# Altium schematic symbol library Module.SchLib: 29 symbols
Pins are listed as number, name and electrical type; pins without a type are passive.

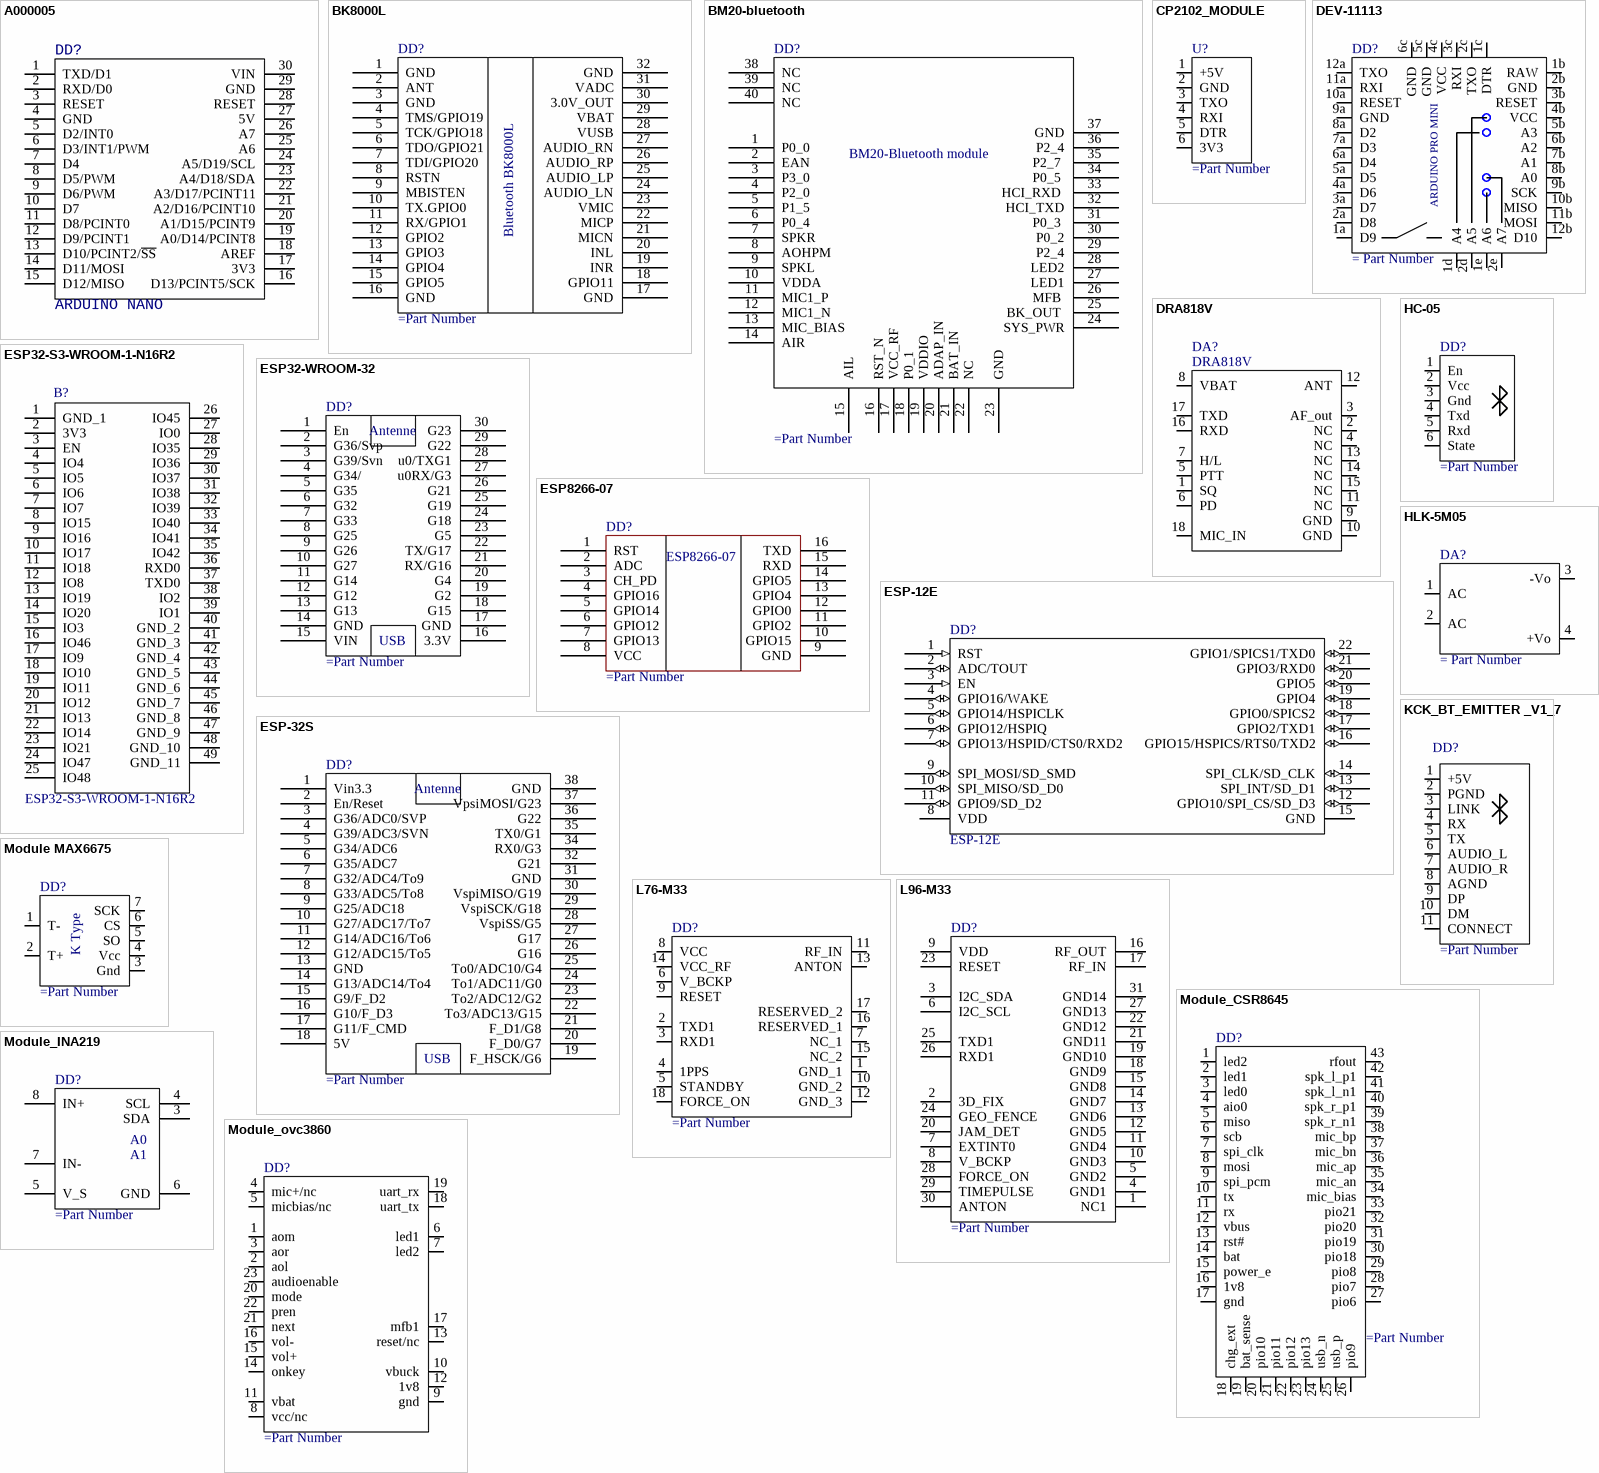
[diagram p0: symbols A000005 to Module_ovc3860]

## A000005
designator DD?, comment ARDUINO NANO
Development Boards & Kits - AVR ARDUINO NANO V3 A000005
footprint ARDUINO NANO
pins: 1 TXD/D1, 2 RXD/D0, 3 RESET, 4 GND, 5 D2/INT0, 6 D3/INT1/PWM, 7 D4, 8 D5/PWM, 9 D6/PWM, 10 D7, 11 D8/PCINT0, 12 D9/PCINT1, 13 D10/PCINT2/~{SS}, 14 D11/MOSI, 15 D12/MISO, 16 D13/PCINT5/SCK, 17 3V3, 18 AREF, 19 A0/D14/PCINT8, 20 A1/D15/PCINT9, 21 A2/D16/PCINT10, 22 A3/D17/PCINT11, 23 A4/D18/SDA, 24 A5/D19/SCL, 25 A6, 26 A7, 27 5V, 28 RESET, 29 GND, 30 VIN

## BK8000L
designator DD?
pins: 1 GND, 2 ANT, 3 GND, 4 TMS/GPIO19, 5 TCK/GPIO18, 6 TDO/GPIO21, 7 TDI/GPIO20, 8 RSTN, 9 MBISTEN, 10 TX.GPIO0, 11 RX/GPIO1, 12 GPIO2, 13 GPIO3, 14 GPIO4, 15 GPIO5, 16 GND, 17 GND, 18 GPIO11, 19 INR, 20 INL, 21 MICN, 22 MICP, 23 VMIC, 24 AUDIO_LN, 25 AUDIO_LP, 26 AUDIO_RP, 27 AUDIO_RN, 28 VUSB, 29 VBAT, 30 3.0V_OUT, 31 VADC, 32 GND
text: Bluetooth BK8000L

## BM20-bluetooth
designator DD?
pins: 1 P0_0 , 2 EAN, 3 P3_0, 4 P2_0, 5 P1_5, 6 P0_4, 7 SPKR, 8 AOHPM , 9 SPKL , 10 VDDA , 11 MIC1_P , 12 MIC1_N , 13 MIC_BIAS, 14 AIR, 15 AIL, 16 RST_N , 17 VCC_RF, 18 P0_1, 19 VDDIO, 20 ADAP_IN, 21 BAT_IN, 22 NC, 23 GND, 24 SYS_PWR, 25 BK_OUT , 26 MFB , 27 LED1, 28 LED2, 29 P2_4, 30 P0_2, 31 P0_3 , 32   HCI_TXD, 33 HCI_RXD , 34 P0_5 , 35 P2_7 , 36 P2_4, 37 GND, 38 NC, 39 NC, 40 NC
text: BM20-Bluetooth module

## CP2102_MODULE
designator U?
pins: 1 +5V, 2 GND, 3 TXO, 4 RXI, 5 DTR, 6 3V3

## DEV-11113
designator DD?
pins: 1a D9, 1b RAW, 1c DTR, 1d A4, 1e A6, 2a D8, 2b GND, 2c TXO, 2d A5, 2e A7, 3a D7, 3b RESET, 3c RXI, 4a D6, 4b VCC, 4c VCC, 5a D5, 5b A3, 5c GND, 6a D4, 6b A2, 6c GND, 7a D3, 7b A1, 8a D2, 8b A0, 9a GND, 9b SCK, 10a RESET, 10b MISO, 11a RXI, 11b MOSI, 12a TXO, 12b D10
text: ARDUINO PRO MINI

## DRA818V
designator DA?
footprint DRA818_breakout
pins: 1 SQ "Squelch output", 2 NC, 3 AF_out "AF output", 4 NC, 5 PTT "Low -> TX; High -> RX", 6 PD "Power Down", 7 H/L "L -> 0.5W; float -> 1W", 8 VBAT, 9 GND, 10 GND, 11 NC, 12 ANT, 13 NC, 14 NC, 15 NC, 16 RXD, 17 TXD, 18 MIC_IN

## ESP32-S3-WROOM-1-N16R2
designator B?
Bluetooth, WiFi 802.11b/g/n, Bluetooth v5.0 Transceiver Module 2.4GHz PCB Trace Surface Mount , 3V ~ 3.6V , 95mA ~ 97mA , -40C ~ 85C (TA); Manufacturer_Name: Espressif Systems; Geometry.Height: 3.25mm; Mouser Part Number: 356-ESP32S3WRM1N16R2; Mouser Price/Stock: https://www.mouser.co.uk/ProductDetail/Espressif-Systems/ESP32-S3-WROOM-1-N16R2?qs=Li%252BoUPsLEnvy1bxV65eH%2Fw%3D%3D; Manufacturer_Part_Number: ESP32-S3-WROOM-1-N16R2; Datasheet Link: https://www.espressif.com/sites/default/files/documentation/esp32-s3-wroom-1_wroom-1u_datasheet_en.pdf
footprint ESP32S3WROOM1N16R2
pins: 1 GND_1, 2 3V3, 3 EN, 4 IO4, 5 IO5, 6 IO6, 7 IO7, 8 IO15, 9 IO16, 10 IO17, 11 IO18, 12 IO8, 13 IO19, 14 IO20, 15 IO3, 16 IO46, 17 IO9, 18 IO10, 19 IO11, 20 IO12, 21 IO13, 22 IO14, 23 IO21, 24 IO47, 25 IO48, 26 IO45, 27 IO0, 28 IO35, 29 IO36, 30 IO37, 31 IO38, 32 IO39, 33 IO40, 34 IO41, 35 IO42, 36 RXD0, 37 TXD0, 38 IO2, 39 IO1, 40 GND_2, 41 GND_3, 42 GND_4, 43 GND_5, 44 GND_6, 45 GND_7, 46 GND_8, 47 GND_9, 48 GND_10, 49 GND_11

## ESP32-WROOM-32
designator DD?
pins: 1 En, 2 G36/Svp, 3 G39/Svn, 4 G34/, 5 G35, 6 G32, 7 G33, 8 G25, 9 G26, 10 G27, 11 G14, 12 G12, 13 G13, 14 GND, 15 VIN, 16 3.3V, 17 GND, 18 G15, 19 G2, 20 G4, 21 RX/G16, 22 TX/G17, 23 G5, 24 G18, 25 G19, 26 G21, 27 u0RX/G3, 28 u0/TXG1, 29 G22, 30 G23
text: Antenne; USB

## ESP8266-07
designator DD?
pins: 1 RST, 2 ADC, 3 CH_PD, 4 GPIO16, 5 GPIO14, 6 GPIO12, 7 GPIO13, 8 VCC, 9 GND, 10 GPIO15, 11 GPIO2, 12 GPIO0, 13 GPIO4, 14 GPIO5, 15 RXD, 16 TXD

## ESP-12E
designator DD?
WiFi module has a 32-bit MCU micro and clock speeds supporting 80 MHz or 160 MHz.; Part Number: 317060015; Manufacturer Part Number: 317060015-ND; HelpURL: https://www.digikey.com/en/products/detail/seeed-technology-co-ltd/317060015/5775200; Price$: 5.28; Digi-Key Part Number: 317060015-ND; Mouser Part Number: 317060015; HelpURL2: https://www.snapeda.com/parts/ESP8266-12E/ESP-12E/AI-Thinker/view-part/
footprint 317060015
pins: 1 RST (in), 2 ADC/TOUT (io), 3 EN (in), 4 GPIO16/WAKE (io), 5 GPIO14/HSPICLK (io), 6 GPIO12/HSPIQ (io), 7 GPIO13/HSPID/CTS0/RXD2 (io), 8 VDD, 9 SPI_MOSI/SD_SMD (io), 10 SPI_MISO/SD_D0 (io), 11 GPIO9/SD_D2 (io), 12 GPIO10/SPI_CS/SD_D3 (io), 13 SPI_INT/SD_D1 (io), 14 SPI_CLK/SD_CLK (io), 15 GND, 16 GPIO15/HSPICS/RTS0/TXD2 (io), 17 GPIO2/TXD1 (io), 18 GPIO0/SPICS2 (io), 19 GPIO4 (io), 20 GPIO5 (io), 21 GPIO3/RXD0 (io), 22 GPIO1/SPICS1/TXD0 (io)

## ESP-32S
designator DD?
pins: 1 Vin3.3, 2 En/Reset, 3 G36/ADC0/SVP, 4 G39/ADC3/SVN, 5 G34/ADC6, 6 G35/ADC7, 7 G32/ADC4/To9, 8 G33/ADC5/To8, 9 G25/ADC18, 10 G27/ADC17/To7, 11 G14/ADC16/To6, 12 G12/ADC15/To5, 13 GND, 14 G13/ADC14/To4, 15 G9/F_D2, 16 G10/F_D3, 17 G11/F_CMD, 18 5V, 19 F_HSCK/G6, 20 F_D0/G7, 21 F_D1/G8, 22 To3/ADC13/G15, 23 To2/ADC12/G2, 24 To1/ADC11/G0, 25 To0/ADC10/G4, 26 G16, 27 G17, 28 VspiSS/G5, 29 VspiSCK/G18, 30 VspiMISO/G19, 31 GND, 32 G21, 34 RX0/G3, 35 TX0/G1, 36 G22, 37 VpsiMOSI/G23, 38 GND
text: Antenne; USB

## HC-05
designator DD?
pins: 1 En, 2 Vcc, 3 Gnd, 4 Txd, 5 Rxd, 6 State

## HLK-5M05
designator DA?
footprint HLK-5M05 (5W ultra-compact AC/DC power module HLK-5M05)
pins: 1 AC, 2 AC, 3 -Vo, 4 +Vo

## KCK_BT_EMITTER _V1_7
designator DD?
pins: 1 +5V, 2 PGND, 3 LINK, 4 RX, 5 TX, 6 AUDIO_L, 7 AUDIO_R, 8 AGND, 9 DP, 10 DM, 11 CONNECT

## L76-M33
designator DD?
GPS; Manufacturer_Name: Quectel; Manufacturer_Part_Number: L76-M33; Datasheet Link: https://datasheet.datasheetarchive.com/originals/distributors/Datasheets_SAMA/41812d7b1c816a6d8978e3ae1e22c1bf.pdf; Mouser Part Number: 277-L76-M33; Mouser Price/Stock: https://www.mouser.co.uk/ProductDetail/Quectel/L76-M33?qs=GedFDFLaBXE%2FO6lmQFkONA%3D%3D; Arrow Part Number: L76-M33; Arrow Price/Stock: https://www.arrow.com/en/products/l76-m33/quectel-wireless-solutions-co-ltd?region=nac
footprint L76
pins: 1 GND_1, 2 TXD1, 3 RXD1, 4 1PPS, 5 STANDBY, 6 V_BCKP, 7 NC_1, 8 VCC, 9 RESET, 10 GND_2, 11 RF_IN, 12 GND_3, 13 ANTON, 14 VCC_RF, 15 NC_2, 16 RESERVED_1, 17 RESERVED_2, 18 FORCE_ON

## L96-M33
designator DD?
GPS; Manufacturer_Name: Quectel; Manufacturer_Part_Number: L96-M33; Datasheet Link: https://datasheet.datasheetarchive.com/originals/distributors/Datasheets_SAMA/c0ed967e056339dc6605afdc999e8ece.pdf; Mouser Part Number: 277-L96-M33; Mouser Price/Stock: https://www.mouser.co.uk/ProductDetail/Quectel/L96-M33?qs=GedFDFLaBXHZlDfU1tecmQ%3D%3D; Arrow Part Number: L96-M33; Arrow Price/Stock: https://www.arrow.com/en/products/l96-m33/quectel-wireless-solutions-co-ltd?region=nac
footprint L96
pins: 1 NC1, 2 3D_FIX, 3 I2C_SDA, 4 GND1, 5 GND2, 6 I2C_SCL, 7 EXTINT0, 8 V_BCKP, 9 VDD, 10 GND3, 11 GND4, 12 GND5, 13 GND6, 14 GND7, 15 GND8, 16 RF_OUT, 17 RF_IN, 18 GND9, 19 GND10, 20 JAM_DET, 21 GND11, 22 GND12, 23 RESET, 24 GEO_FENCE, 25 TXD1, 26 RXD1, 27 GND13, 28 FORCE_ON, 29 TIMEPULSE, 30 ANTON, 31 GND14

## Module MAX6675
designator DD?
pins: 1 T-, 2 T+, 3 Gnd, 4 Vcc, 5 SO, 6 CS, 7 SCK
text: K Type

## Module_CSR8645
designator DD?
pins: 1 led2, 2 led1, 3 led0, 4 aio0, 5 miso, 6 scb, 7 spi_clk, 8 mosi, 9 spi_pcm, 10 tx, 11 rx, 12 vbus, 13 rst#, 14 bat, 15 power_e, 16 1v8, 17 gnd, 18 chg_ext, 19 bat_sense, 20 pio10, 21 pio11, 22 pio12, 23 pio13, 24 usb_n, 25 usb_p, 26 pio9, 27 pio6, 28 pio7, 29 pio8, 30 pio18, 31 pio19, 32 pio20, 33 pio21, 34 mic_bias, 35 mic_an, 36 mic_ap, 37 mic_bn, 38 mic_bp, 39 spk_r_n1, 40 spk_r_p1, 41 spk_l_n1, 42 spk_l_p1, 43 rfout

## Module_INA219
designator DD?
pins: 3 SDA, 4 SCL, 5 V_S, 6 GND, 7 IN-, 8 IN+
text: A0; A1

## Module_ovc3860
designator DD?
pins: 1 aom, 2 aol, 3 aor, 4 mic+/nc, 5 micbias/nc, 6 led1, 7 led2, 8 vcc/nc, 9 gnd, 10 vbuck, 11 vbat, 12 1v8, 13 reset/nc, 14 onkey, 15 vol+, 16 vol-, 17 mfb1, 18 uart_tx, 19 uart_rx, 20 mode, 21 next, 22 pren, 23 audioenable

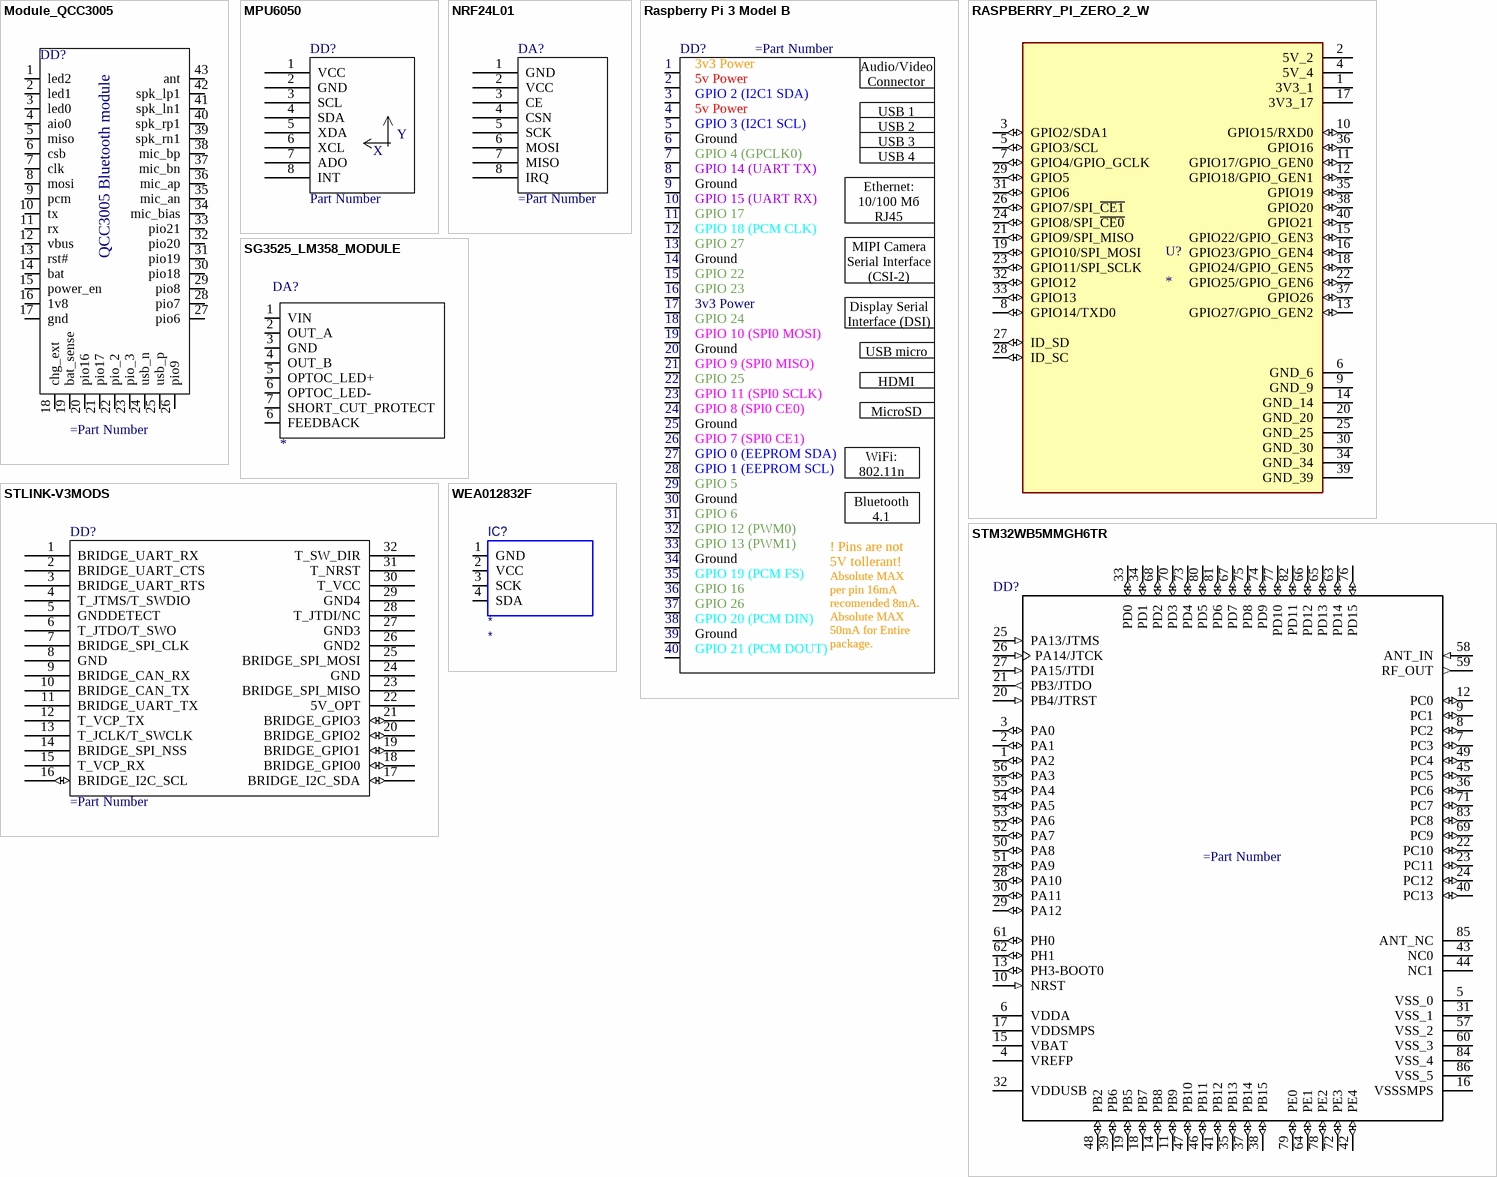
[diagram p1: symbols Module_QCC3005 to WEA012832F]

## Module_QCC3005
designator DD?
pins: 1 led2, 2 led1, 3 led0, 4 aio0, 5 miso, 6 csb, 7 clk, 8 mosi, 9 pcm, 10 tx, 11 rx, 12 vbus, 13 rst#, 14 bat, 15 power_en, 16 1v8, 17 gnd, 18 chg_ext, 19 bat_sense, 20 pio16, 21 pio17, 22 pio_2, 23 pio_3, 24 usb_n, 25 usb_p, 26 pio9, 27 pio6, 28 pio7, 29 pio8, 30 pio18, 31 pio19, 32 pio20, 33 pio21, 34 mic_bias, 35 mic_an, 36 mic_ap, 37 mic_bn, 38 mic_bp, 39 spk_rn1, 40 spk_rp1, 41 spk_ln1, 42 spk_lp1, 43 ant
text: QCC3005 Bluetooth module

## MPU6050
designator DD?, comment Part Number
pins: 1 VCC, 2 GND, 3 SCL, 4 SDA, 5 XDA, 6 XCL, 7 ADO, 8 INT
text: Y; X

## NRF24L01
designator DA?
pins: 1 GND, 2 VCC, 3 CE, 4 CSN, 5 SCK, 6 MOSI, 7 MISO, 8 IRQ

## Raspberry Pi 3 Model B
designator DD?
text: 1; 3v3 Power; 2; 5v Power; Audio/Video Connector; 3; GPIO 2 (I2C1 SDA); 4; USB 1; 5; GPIO 3 (I2C1 SCL); USB 2; 6; Ground; USB 3; 7; GPIO 4 (GPCLK0); USB 4; 8; GPIO 14 (UART TX); 9; 10; GPIO 15 (UART RX); 11; GPIO 17; Ethernet: 10/100 Мб RJ45; 12; GPIO 18 (PCM CLK); 13; GPIO 27; 14; 15; GPIO 22; MIPI Camera Serial Interface (CSI-2); 16; GPIO 23; 17; 18; GPIO 24; Display Serial Interface (DSI); 19; GPIO 10 (SPI0 MOSI); 20; USB micro; 21; GPIO 9 (SPI0 MISO); 22; GPIO 25; HDMI; 23; GPIO 11 (SPI0 SCLK); 24; GPIO 8 (SPI0 CE0); MicroSD; 25; 26; GPIO 7 (SPI0 CE1); 27; GPIO 0 (EEPROM SDA); 28; GPIO 1 (EEPROM SCL); WiFi: 802.11n; 29; GPIO 5; 30; 31; GPIO 6; Bluetooth 4.1; 32; GPIO 12 (PWM0); 33; GPIO 13 (PWM1); 34; ! Pins are not 5V tollerant! /; 35; GPIO 19 (PCM FS); 36; GPIO 16; 37; GPIO 26; 38; GPIO 20 (PCM DIN); 39; 40; GPIO 21 (PCM DOUT); Absolute MAX per pin 16mA recomended 8mA. / Absolute MAX  50mA for Entire package. /

## RASPBERRY_PI_ZERO_2_W
designator U?
At the heart of Raspberry Pi Zero 2 W is RP3A0, a custom-built system-in-package designed by Raspberry Pi in the UK.; SnapEDA_Link: https://www.snapeda.com/parts/RASPBERRY%20PI%20ZERO%202%20W/Raspberry+Pi/view-part/?ref=snap; Package: None; Value: *; MF: Raspberry Pi; MP: RASPBERRY PI ZERO 2 W; Check_prices: https://www.snapeda.com/parts/RASPBERRY%20PI%20ZERO%202%20W/Raspberry+Pi/view-part/?ref=eda
footprint MODULE_RASPBERRY_PI_ZERO_2_W
pins: 1 3V3_1 (power), 2 5V_2 (power), 3 GPIO2/SDA1 (io), 4 5V_4 (power), 5 GPIO3/SCL (io), 6 GND_6 (power), 7 GPIO4/GPIO_GCLK (io), 8 GPIO14/TXD0 (io), 9 GND_9 (power), 10 GPIO15/RXD0 (io), 11 GPIO17/GPIO_GEN0 (io), 12 GPIO18/GPIO_GEN1 (io), 13 GPIO27/GPIO_GEN2 (io), 14 GND_14 (power), 15 GPIO22/GPIO_GEN3 (io), 16 GPIO23/GPIO_GEN4 (io), 17 3V3_17 (power), 18 GPIO24/GPIO_GEN5 (io), 19 GPIO10/SPI_MOSI (io), 20 GND_20 (power), 21 GPIO9/SPI_MISO (io), 22 GPIO25/GPIO_GEN6 (io), 23 GPIO11/SPI_SCLK (io), 24 GPIO8/SPI_~{CE0} (io), 25 GND_25 (power), 26 GPIO7/SPI_~{CE1} (io), 27 ID_SD (io), 28 ID_SC (io), 29 GPIO5 (io), 30 GND_30 (power), 31 GPIO6 (io), 32 GPIO12 (io), 33 GPIO13 (io), 34 GND_34 (power), 35 GPIO19 (io), 36 GPIO16 (io), 37 GPIO26 (io), 38 GPIO20 (io), 39 GND_39 (power), 40 GPIO21 (io)

## SG3525_LM358_MODULE
designator DA?
pins: 1 VIN, 2 OUT_A, 3 GND, 4 OUT_B, 5 OPTOC_LED+, 6 OPTOC_LED-, 6 FEEDBACK, 7 SHORT_CUT_PROTECT

## STLINK-V3MODS
designator DD?
No Description Available; Manufacturer_Part_Number: STLINK-V3MOS; Built_By: EMA_Rocco; Vendor: STMicroelectronics; Copyright: Copyright (C) 2018 Accelerated Designs. All rights reserved; RefDes: RefDes; Type: Type
footprint mod_stlink-v3m_mb1467
pins: 1 BRIDGE_UART_RX, 2 BRIDGE_UART_CTS, 3 BRIDGE_UART_RTS, 4 T_JTMS/T_SWDIO, 5 GNDDETECT, 6 T_JTDO/T_SWO, 7 BRIDGE_SPI_CLK, 8 GND, 9 BRIDGE_CAN_RX, 10 BRIDGE_CAN_TX, 11 BRIDGE_UART_TX, 12 T_VCP_TX, 13 T_JCLK/T_SWCLK, 14 BRIDGE_SPI_NSS, 15 T_VCP_RX, 16 BRIDGE_I2C_SCL (io), 17 BRIDGE_I2C_SDA (io), 18 BRIDGE_GPIO0 (io), 19 BRIDGE_GPIO1 (io), 20 BRIDGE_GPIO2 (io), 21 BRIDGE_GPIO3 (io), 22 5V_OPT, 23 BRIDGE_SPI_MISO, 24 GND, 25 BRIDGE_SPI_MOSI, 26 GND2, 27 GND3, 28 T_JTDI/NC, 29 GND4, 30 T_VCC, 31 T_NRST, 32 T_SW_DIR

## STM32WB5MMGH6TR
designator DD?
pins: 1 PA2 (io), 2 PA1 (io), 3 PA0 (io), 4 VREFP (power), 5 VSS_0 (power), 6 VDDA (power), 7 PC3 (io), 8 PC2 (io), 9 PC1 (io), 10 NRST (in), 11 PB9 (io), 12 PC0 (io), 13 PH3-BOOT0 (io), 14 PB8 (io), 15 VBAT (power), 16 VSSSMPS (power), 17 VDDSMPS (power), 18 PB7 (io), 19 PB5 (io), 20 PB4/JTRST (in), 21 PB3/JTDO (out), 22 PC10 (io), 23 PC11 (io), 24 PC12 (io), 25 PA13/JTMS (in), 26 PA14/JTCK (in), 27 PA15/JTDI (in), 28 PA10 (io), 29 PA12 (io), 30 PA11 (io), 31 VSS_1 (power), 32 VDDUSB (power), 33 PD0 (io), 34 PD1 (io), 35 PB13 (io), 36 PC6 (io), 37 PB14 (io), 38 PB15 (io), 39 PB6 (io), 40 PC13 (io), 41 PB12 (io), 42 PE4 (io), 43 NC0, 44 NC1, 45 PC5 (io), 46 PB11 (io), 47 PB10 (io), 48 PB2 (io), 49 PC4 (io), 50 PA8 (io), 51 PA9 (io), 52 PA7 (io), 53 PA6 (io), 54 PA5 (io), 55 PA4 (io), 56 PA3 (io), 57 VSS_2 (power), 58 ANT_IN (in), 59 RF_OUT (out), 60 VSS_3 (power), 61 PH0 (io), 62 PH1 (io), 63 PD14 (io), 64 PE1 (io), 65 PD13 (io), 66 PD12 (io), 67 PD7 (io), 68 PD2 (io), 69 PC9 (io), 70 PD3 (io), 71 PC7 (io), 72 PE3 (io), 73 PD4 (io), 74 PD9 (io), 75 PD8 (io), 76 PD15 (io), 77 PD10 (io), 78 PE2 (io), 79 PE0 (io), 80 PD5 (io), 81 PD6 (io), 82 PD11 (io), 83 PC8 (io), 84 VSS_4 (power), 85 ANT_NC, 86 VSS_5 (power)

## WEA012832F
designator IC?
Silk: *
pins: 1 GND, 2 VCC, 3 SCK, 4 SDA